# Altium footprint library PCB - CONNECTOR - JST - JST B9B-PH-K.PCBLIB: 1 footprints
Each footprint in its own frame and in the unit in brackets; x right, y up, seen from the top. Pads: shape width x height; smd on the part's side, far side on the other; paste and mask are expansions set on the pad; w line width, h text height; cw(c..) or ccw(c..) is an arc to the next point about the centre after c.
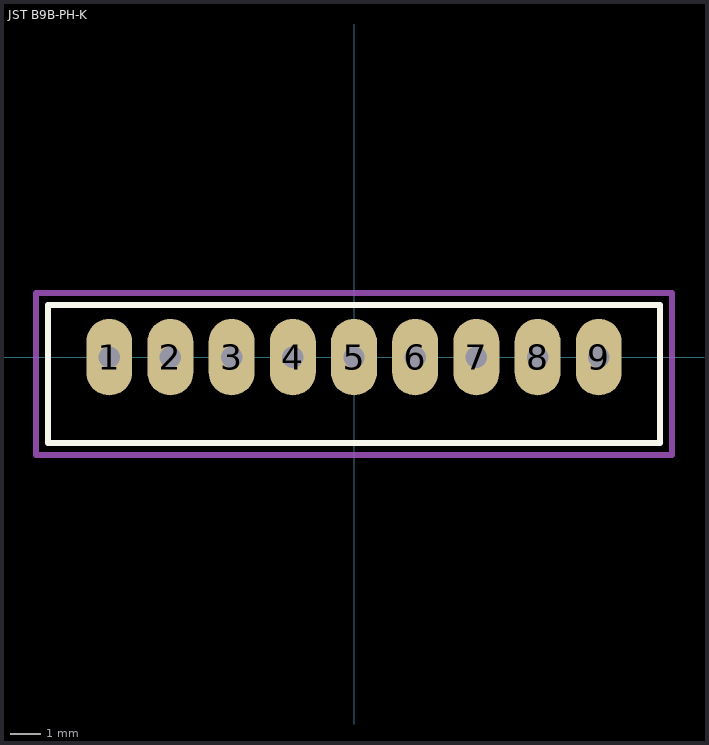
[diagram p0: the footprint, top view; thin cyan lines are the x and y axes]

## JST B9B-PH-K [mm]
height 6
pads (9):
  oval 1.5x2.5 hole 0.7: 1(-8,0) 2(-6,0) 3(-4,0) 4(-2,0) 5(0,0) 6(2,0) 7(4,0) 8(6,0) 9(8,0)
Top Overlay:
  lines w0.2: -10,-2.8 -10,1.7 10,1.7 10,-2.8 -10,-2.8
Bottom Overlay:
  circle w0.254: c-9.1,1.1 r0.141
Mechanical 13:
  lines w0.2: -10,-2.8 10,-2.8 10,1.7 -10,1.7 -10,-2.8
Mechanical 15:
  lines w0.2: -0.5,0 0.5,0 ; 0,-0.5 0,0.5 ; -10.4,-3.2 10.4,-3.2 10.4,2.1 -10.4,2.1 -10.4,-3.2
3D body "JST B9B-PH-K-S.STEP": height 6, standoff -3.4, extent -9.95,-2.8 9.95,1.7